# Altium schematic symbol library GT_JTLPS1.13-KKLN-25-1-150-R33.SchLib: 1 symbol
Pins are listed as number, name and electrical type; pins without a type are passive.

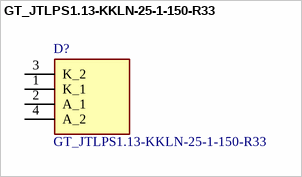
[diagram p0: symbol GT_JTLPS1.13-KKLN-25-1-150-R33]

## GT_JTLPS1.13-KKLN-25-1-150-R33
designator D?
High Power LEDs - Single Colour True Green DURIS E 2835; Manufacturer_Name: ams OSRAM; Manufacturer_Part_Number: GT JTLPS1.13-KKLN-25-1-150-R33; Geometry.Height: 0.8mm; Mouser Part Number: 720-GTJTLPS113A1047; Mouser Price/Stock: https://www.mouser.co.uk/ProductDetail/OSRAM-Opto-Semiconductors/GT-JTLPS113-KKLN-25-1-150-R33?qs=T94vaHKWudSqdWcctUSVlg%3D%3D; Datasheet Link: https://www.osram.com/media/resource/hires/osram-dam-14476148/GT+JTLPS1.13_EN.pdf
footprint GTJTLPS113KKLN251150R33
pins: 1 K_1, 2 A_1, 3 K_2, 4 A_2